# Altium footprint library RS232-MITM.PcbLib: 2 footprints
Each footprint in its own frame and in the unit in brackets; x right, y up, seen from the top. Pads: shape width x height; smd on the part's side, far side on the other; paste and mask are expansions set on the pad; w line width, h text height; cw(c..) or ccw(c..) is an arc to the next point about the centre after c.
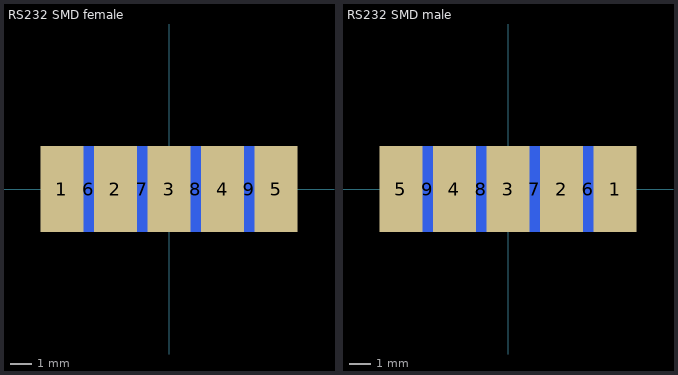
[diagram p0: the footprints below, top view; thin cyan lines are the x and y axes]

## RS232 SMD female [mm]
pads (9):
  rect 2x4 smd: 1(-5,0) 2(-2.5,0) 3(0,0) 4(2.5,0) 5(5,0)
  rect 2x4 smd far side: 6(-3.75,0) 7(-1.25,0) 8(1.25,0) 9(3.75,0)

## RS232 SMD male [mm]
pads (9):
  rect 2x4 smd: 1(5,0) 2(2.5,0) 3(0,0) 4(-2.5,0) 5(-5,0)
  rect 2x4 smd far side: 6(3.75,0) 7(1.25,0) 8(-1.25,0) 9(-3.75,0)
3D body: height 6.27, standoff -6.27, extent -15.3,-1.9 15.5,15